# EAGLE library part L298_SMD_W_PAD (library SparkFun-IC-Special-Function)
Full-bridge power driver IC This device uses the ground pad under the IC
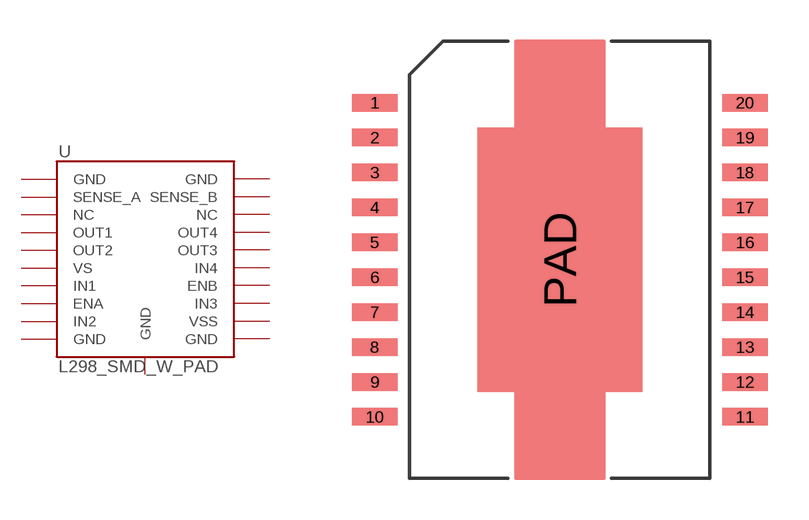
[diagram p26: symbol with the pads of POWERSO20_L298_PAD; footprint POWERSO20_L298_PAD]

Designator prefix -

## L298_SMD_W_PAD (PROD_ID: IC-09133; VALUE: L298)  [POWERSO20_L298_PAD]
1  GND
2  SENSE_A
3  NC
4  OUT1
5  OUT2
6  VS
7  IN1
8  ENA
9  IN2
10  GND
11  GND
12  VSS
13  IN3
14  ENB
15  IN4
16  OUT3
17  OUT4
18  NC
19  SENSE_B
20  GND
PAD  GND

## Footprint POWERSO20_L298_PAD (pad centres in mm)
smd 1.651 x 0.635: 1 -6.731,5.715; 2 -6.731,4.445; 3 -6.731,3.175; 4 -6.731,1.905; 5 -6.731,0.635; 6 -6.731,-0.635; 7 -6.731,-1.905; 8 -6.731,-3.175; 9 -6.731,-4.445; 10 -6.731,-5.715; 11 6.731,-5.715; 12 6.731,-4.445; 13 6.731,-3.175; 14 6.731,-1.905; 15 6.731,-0.635; 16 6.731,0.635; 17 6.731,1.905; 18 6.731,3.175; 19 6.731,4.445; 20 6.731,5.715
smd 5.994 x 9.601: PAD 0,0